# EAGLE library part ADXL345 (library ADXL345 Accelerometer)
3-Axis, ±2 g/±4 g/±8 g/±16 g Digital Accelerometer
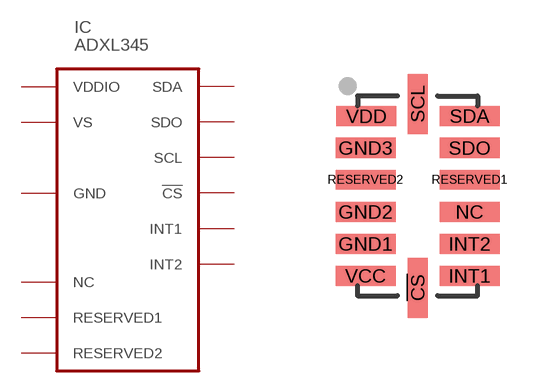
[diagram p0: symbol with the pads of LGA14; footprint LGA14]

Designator prefix IC

## ADXL345  [LGA14]
!CS!  !CS!  in
GND1  GND  pwr
GND2  GND  pwr
GND3  GND  pwr
INT1  INT1  out
INT2  INT2  out
NC  NC  nc
RESERVED1  RESERVED1  nc
RESERVED2  RESERVED2  nc
SCL  SCL  in
SDA  SDA  in
SDO  SDO  out
VCC  VS  pwr
VDD  VDDIO  pwr

## Footprint LGA14 (pad centres in mm)
Land Grid Array (LGA-14)
smd 0.5 x 1.5: !CS! 0,-2.3; SCL 0,2.3
smd 1.5 x 0.5: GND1 -1.3,-1.2; GND2 -1.3,-0.4; GND3 -1.3,1.2; INT1 1.3,-2; INT2 1.3,-1.2; NC 1.3,-0.4; RESERVED1 1.3,0.4; RESERVED2 -1.3,0.4; SDA 1.3,2; SDO 1.3,1.2; VCC -1.3,-2; VDD -1.276,1.995